# Altium schematic symbol library Crystals.SchLib: 2 symbols
Pins are listed as number, name and electrical type; pins without a type are passive.

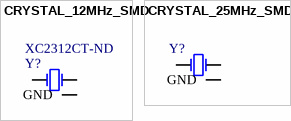
[diagram p0: symbols CRYSTAL_12MHz_SMD to CRYSTAL_25MHz_SMD_1]

## CRYSTAL_12MHz_SMD
designator Y?, comment Supplier Part Number 1: XC2312CT-ND  (hidden comment: CRYSTAL 12.0000MHZ 18PF SMD)
12 MHz ±20ppm Crystal 18pF 50 Ohms 4-SMD, No Lead; Made By: Siddharth Venkatesan; Frequency: 25 MHz; ESR: 40 Ohms; Load Capacitance: 18pF; Supplier 1: Digi-Key
footprint 4-SMD No Lead Crystal; pin to pad 2>3 GND>2+4
pins: 1, 2, GND (power)

## CRYSTAL_25MHz_SMD_1
designator Y?, comment CRYSTAL 12.0000MHZ 18PF SMD  (value not drawn)
25 MHz ±20ppm Crystal 18pF; Made By: Robert Pafford; Frequency: 12 MHz; ESR: 50 Ohmz; Load Capacitance: 18pF; Supplier 1: Digi-Key; Supplier Part Number 1: 2151-AS-25.000-18-F-EXT-ND
footprint 4-SMD No Lead Crystal; pin to pad 2>3 GND>2+4
pins: 1, 2, GND (power)